# Altium integrated library Altium Database Library V2.IntLib: 722 symbols (part 32 of 35)

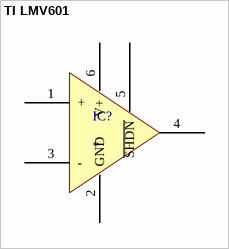
[diagram p640: symbol TI LMV601]

## TI LMV601
designator IC?
pins: 1 +, 2 GND (power), 3 -, 4 OUT, 5 ~{SHDN}, 6 V+ (power)


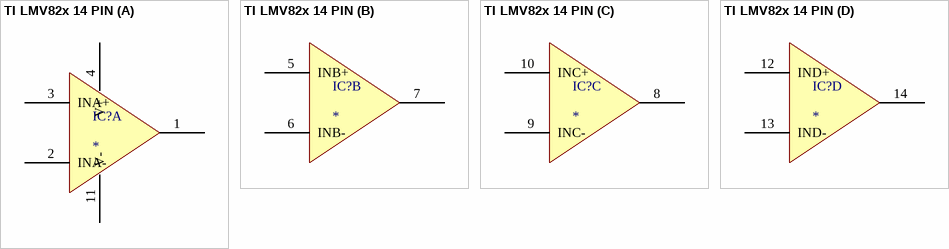
[diagram p641: symbol TI LMV82x 14 PIN]

## TI LMV82x 14 PIN
designator IC?
part A pins: 1 OUT, 2 INA-, 3 INA+, 4 V+ (power), 11 V- (power)
part B pins: 5 INB+, 6 INB-, 7 OUTB
part C pins: 8 OUTC, 9 INC-, 10 INC+
part D pins: 12 IND+, 13 IND-, 14 OUTD


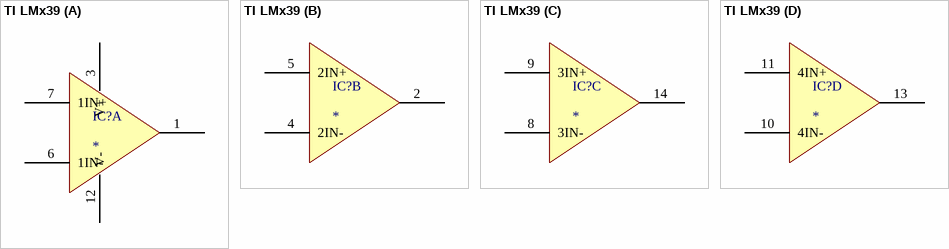
[diagram p642: symbol TI LMx39]

## TI LMx39
designator IC?
part A pins: 1 1OUT, 3 V+ (power), 6 1IN-, 7 1IN+, 12 V- (power)
part B pins: 2 2OUT, 4 2IN-, 5 2IN+
part C pins: 8 3IN-, 9 3IN+, 14 3OUT
part D pins: 10 4IN-, 11 4IN+, 13 4OUT


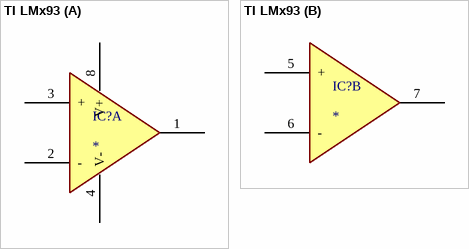
[diagram p643: symbol TI LMx93]

## TI LMx93
designator IC?
part A pins: 1 OUTA, 2 -, 3 +, 4 V-, 8 V+
part B pins: 5 +, 6 -, 7 OUTB


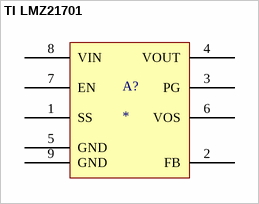
[diagram p644: symbol TI LMZ21701]

## TI LMZ21701
designator A?
pins: 1 SS, 2 FB, 3 PG, 4 VOUT, 5 GND, 6 VOS, 7 EN, 8 VIN, 9 GND


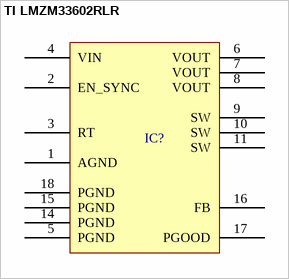
[diagram p645: symbol TI LMZM33602RLR]

## TI LMZM33602RLR
designator IC?  (value not drawn)
pins: 1 AGND, 2 EN_SYNC, 3 RT, 4 VIN, 5 PGND, 6 VOUT, 7 VOUT, 8 VOUT, 9 SW, 10 SW, 11 SW, 14 PGND, 15 PGND, 16 FB, 17 PGOOD, 18 PGND


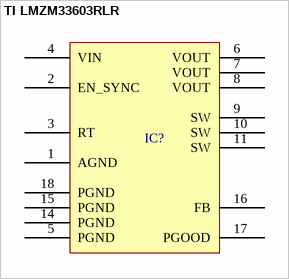
[diagram p646: symbol TI LMZM33603RLR]

## TI LMZM33603RLR
designator IC?  (value not drawn)
pins: 1 AGND, 2 EN_SYNC, 3 RT, 4 VIN, 5 PGND, 6 VOUT, 7 VOUT, 8 VOUT, 9 SW, 10 SW, 11 SW, 14 PGND, 15 PGND, 16 FB, 17 PGOOD, 18 PGND


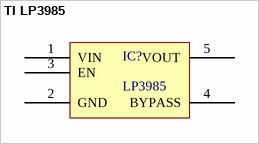
[diagram p647: symbol TI LP3985]

## TI LP3985
designator IC?, comment LP3985
Micropower 150mA Low-Noise Ultra Low-Dropout CMOS Voltage Regulator
pins: 1 VIN, 2 GND, 3 EN, 4 BYPASS, 5 VOUT


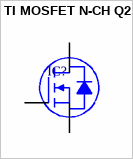
[diagram p648: symbol TI MOSFET N-CH Q2]

## TI MOSFET N-CH Q2
designator IC?
pins: 1 D, 1 5, 1 6, 1 8, 2 D, 3 G, 4 S, 7 S


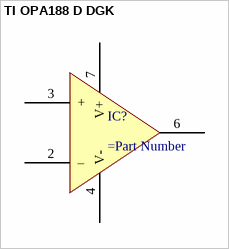
[diagram p649: symbol TI OPA188 D DGK]

## TI OPA188 D DGK
designator IC?
pins: 2 –, 3 +, 4 V-, 6 OUT, 7 V+


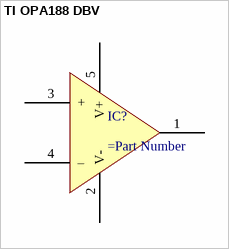
[diagram p650: symbol TI OPA188 DBV]

## TI OPA188 DBV
designator IC?
pins: 1 OUT, 2 V-, 3 +, 4 –, 5 V+


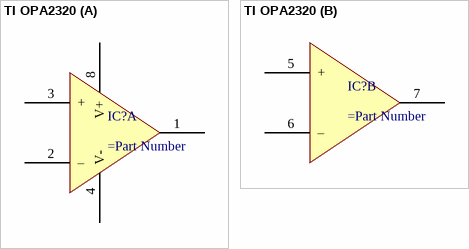
[diagram p651: symbol TI OPA2320]

## TI OPA2320
designator IC?
part A pins: 1 OUT A, 2 –, 3 +, 4 V-, 8 V+
part B pins: 5 +, 6 –, 7 OUT B


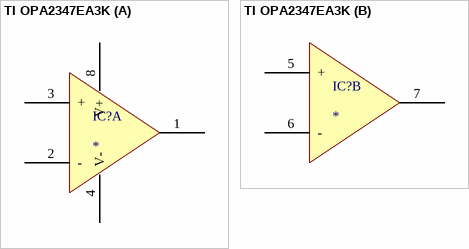
[diagram p652: symbol TI OPA2347EA3K]

## TI OPA2347EA3K
designator IC?
part A pins: 1 OUTA, 2 -, 3 +, 4 V-, 8 V+
part B pins: 5 +, 6 -, 7 OUTB


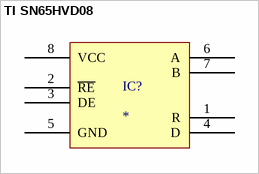
[diagram p653: symbol TI SN65HVD08]

## TI SN65HVD08
designator IC?
pins: 1 R, 2 ~{RE}, 3 DE, 4 D, 5 GND, 6 A, 7 B, 8 VCC


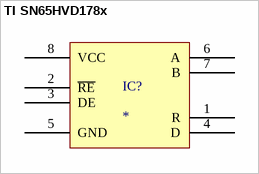
[diagram p654: symbol TI SN65HVD178x]

## TI SN65HVD178x
designator IC?
pins: 1 R, 2 ~{RE}, 3 DE, 4 D, 5 GND, 6 A, 7 B, 8 VCC


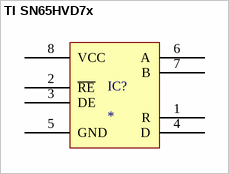
[diagram p655: symbol TI SN65HVD7x]

## TI SN65HVD7x
designator IC?
pins: 1 R, 2 ~{RE}, 3 DE, 4 D, 5 GND, 6 A, 7 B, 8 VCC


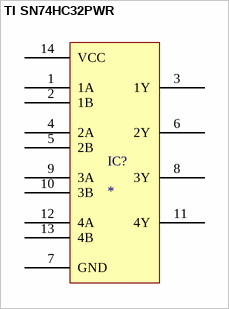
[diagram p656: symbol TI SN74HC32PWR]

## TI SN74HC32PWR
designator IC?
pins: 1 1A, 2 1B, 3 1Y, 4 2A, 5 2B, 6 2Y, 7 GND, 8 3Y, 9 3A, 10 3B, 11 4Y, 12 4A, 13 4B, 14 VCC


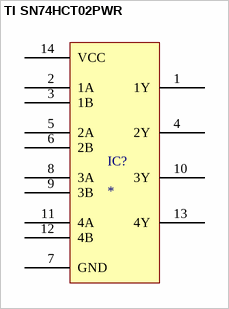
[diagram p657: symbol TI SN74HCT02PWR]

## TI SN74HCT02PWR
designator IC?
pins: 1 1Y, 2 1A, 3 1B, 4 2Y, 5 2A, 6 2B, 7 GND, 8 3A, 9 3B, 10 3Y, 11 4A, 12 4B, 13 4Y, 14 VCC


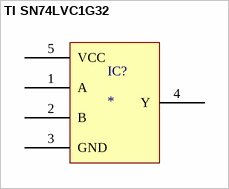
[diagram p658: symbol TI SN74LVC1G32]

## TI SN74LVC1G32
designator IC?
pins: 1 A, 2 B, 3 GND, 4 Y, 5 VCC


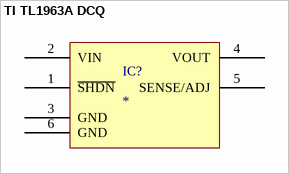
[diagram p659: symbol TI TL1963A DCQ]

## TI TL1963A DCQ
designator IC?
Linear Voltage Regulator IC 1 Output 1.5A
pins: 1 ~{SHDN}, 2 VIN "Desc1", 3 GND "Desc1", 4 VOUT "Desc1", 5 SENSE/ADJ, 6 GND "Desc1"


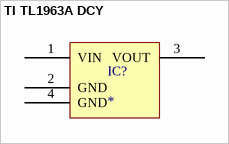
[diagram p660: symbol TI TL1963A DCY]

## TI TL1963A DCY
designator IC?
Linear Voltage Regulator IC 1 Output 1.5A
pins: 1 VIN "Desc1", 2 GND "Desc1", 3 VOUT "Desc1", 4 GND "Desc1"


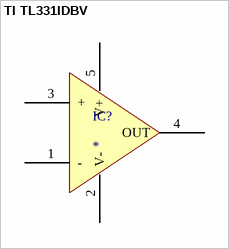
[diagram p661: symbol TI TL331IDBV]

## TI TL331IDBV
designator IC?
pins: 1 -, 2 V- (power), 3 +, 4 OUT, 5 V+ (power)


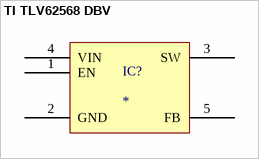
[diagram p662: symbol TI TLV62568 DBV]

## TI TLV62568 DBV
designator IC?
pins: 1 EN, 2 GND, 3 SW, 4 VIN, 5 FB
